# Altium schematic symbol library HSEC8-160-01-L-DV-A-BL.SchLib: 1 symbol
Pins are listed as number, name and electrical type; pins without a type are passive.

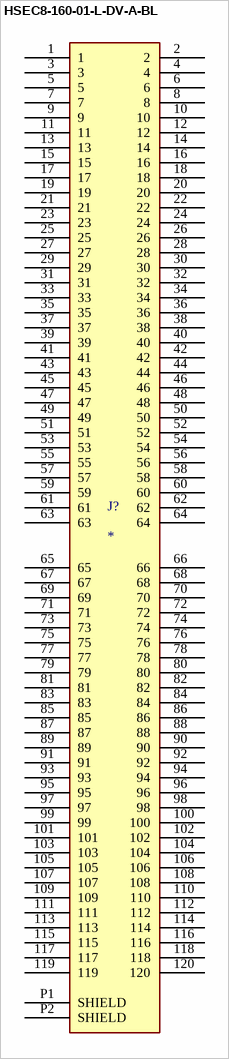
[diagram p0: symbol HSEC8-160-01-L-DV-A-BL]

## HSEC8-160-01-L-DV-A-BL
designator J?
.8mm HIGH SPEED DUAL VERTICAL MOUNT EDGE CARD ASSEMBLY; MP: HSEC8-160-01-L-DV-A-BL; MF: {'manufacturer': u'Samtec'}; Value: *; Price: None; Availability: Unavailable; Package: None
footprint SAMTEC_HSEC8-160-01-L-DV-A-BL
pins: 1, 2, 3, 4, 5, 6, 7, 8, 9, 10, 11, 12, 13, 14, 15, 16, 17, 18, 19, 20, 21, 22, 23, 24, 25, 26, 27, 28, 29, 30, 31, 32, 33, 34, 35, 36, 37, 38, 39, 40, 41, 42, 43, 44, 45, 46, 47, 48, 49, 50, 51, 52, 53, 54, 55, 56, 57, 58, 59, 60, 61, 62, 63, 64, 65, 66, 67, 68, 69, 70, 71, 72, 73, 74, 75, 76, 77, 78, 79, 80, 81, 82, 83, 84, 85, 86, 87, 88, 89, 90, 91, 92, 93, 94, 95, 96, 97, 98, 99, 100, 101, 102, 103, 104, 105, 106, 107, 108, 109, 110, 111, 112, 113, 114, 115, 116, 117, 118, 119, 120, P1 SHIELD, P2 SHIELD